# Altium footprint library JFD_IC.PcbLib: 15 footprints
Each footprint in its own frame and in the unit in brackets; x right, y up, seen from the top. Pads: shape width x height; smd on the part's side, far side on the other; paste and mask are expansions set on the pad; w line width, h text height; cw(c..) or ccw(c..) is an arc to the next point about the centre after c.
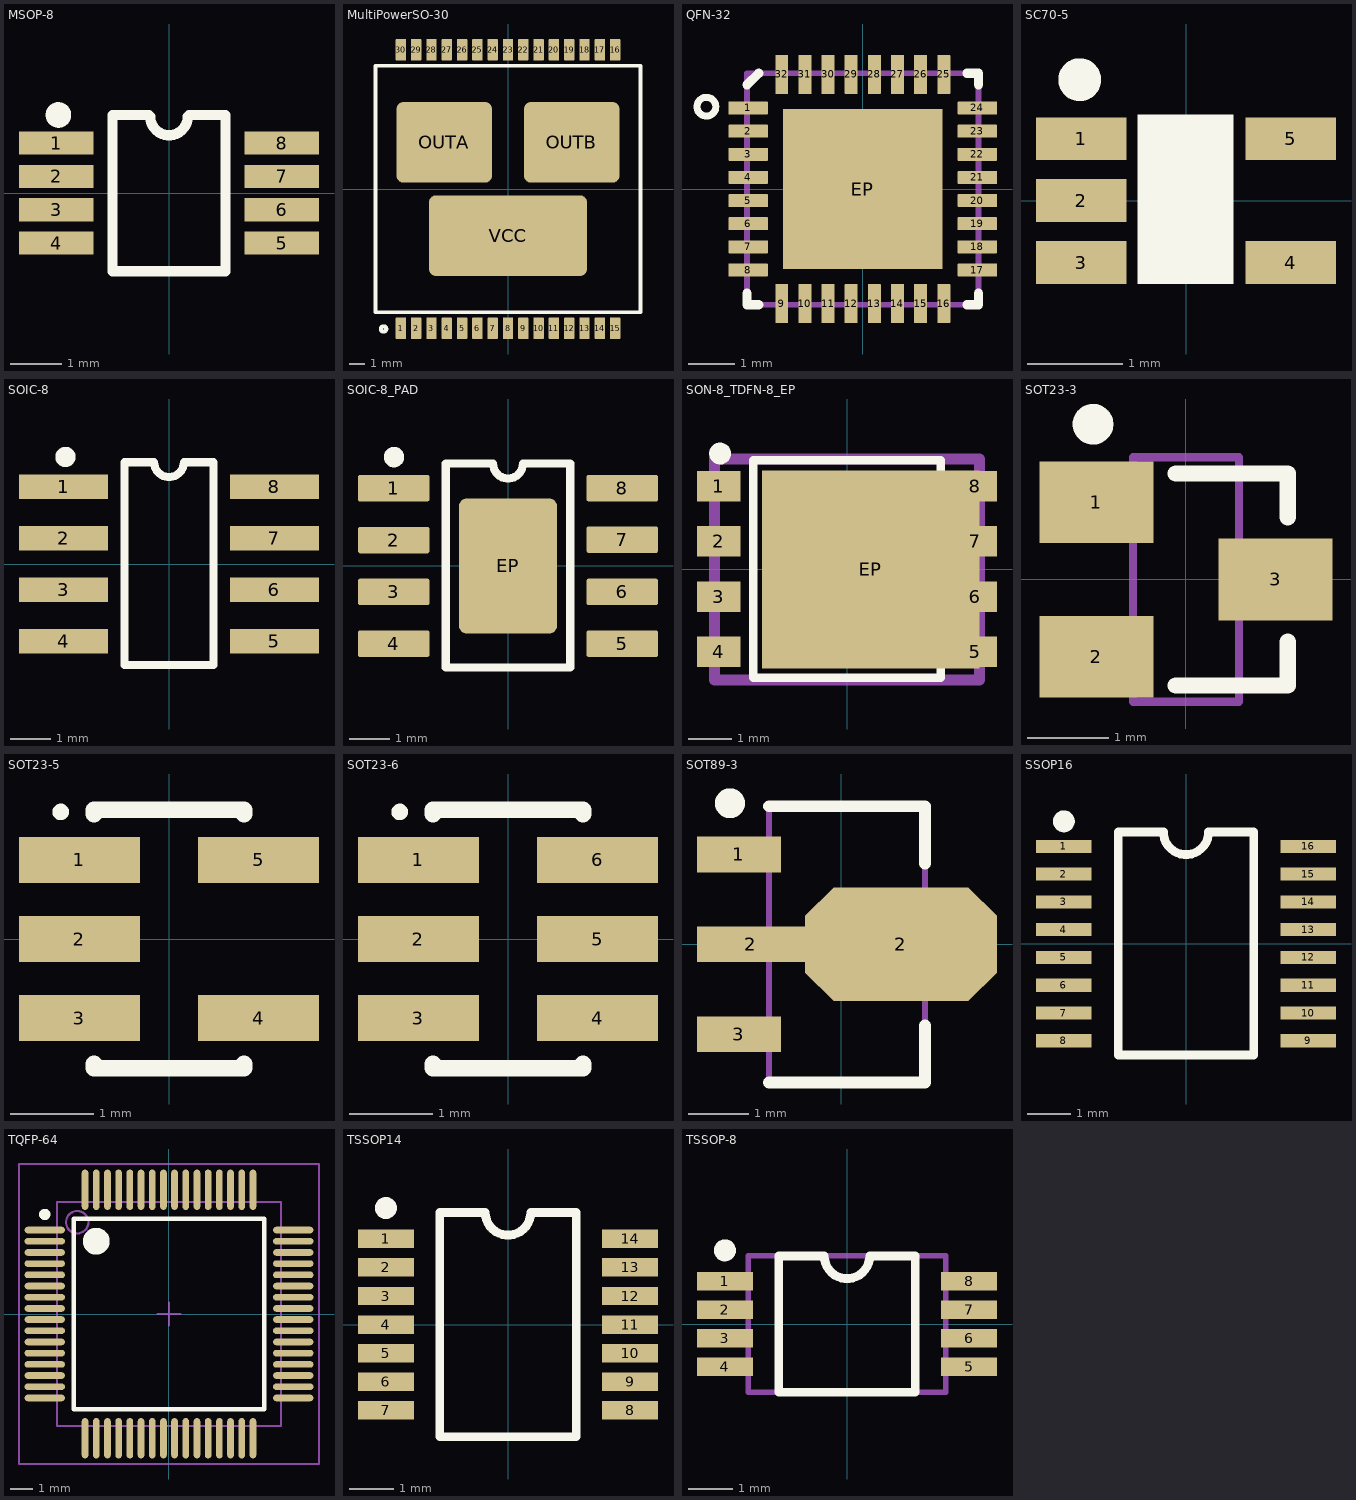
[diagram p0: the footprints below, top view; thin cyan lines are the x and y axes]

## MSOP-8 [mm]
height 1.1
pads (8):
  rect 1.45x0.45 smd mask+0.05: 1(-2.2,0.975) 2(-2.2,0.325) 3(-2.2,-0.325) 4(-2.2,-0.975) 5(2.2,-0.975) 6(2.2,-0.325) 7(2.2,0.325) 8(2.2,0.975)
Top Overlay:
  circle w0.25: c-2.157,1.524 r0.125
  lines w0.2: -0.397,1.524 -1.1,1.524 -1.1,-1.524 1.1,-1.524 1.1,1.524 0.397,1.524 ; -0.367,1.494 ccw(c0,1.494) 0.367,1.494
3D body: height 1.1, standoff 0, extent -2.469,-1.55 2.469,1.55

## MultiPowerSO-30 [mm]
height 2.25
pads (33):
  rrect15% 0.68x1.4 smd: 1(-7,-9.1) 2(-6,-9.1) 3(-5,-9.1) 4(-4,-9.1) 5(-3,-9.1) 6(-2,-9.1) 7(-1,-9.1) 8(0,-9.1) 9(1,-9.1) 10(2,-9.1) 11(3,-9.1) 12(4,-9.1) 13(5,-9.1) 14(6,-9.1) 15(7,-9.1) 16(7,9.1) 17(6,9.1) 18(5,9.1) 19(4,9.1) 20(3,9.1) 21(2,9.1) 22(1,9.1) 23(0,9.1) 24(-1,9.1) 25(-2,9.1) 26(-3,9.1) 27(-4,9.1) 28(-5,9.1) 29(-6,9.1) 30(-7,9.1)
  rrect15% 6.23x5.25 smd: OUTA(-4.165,3.05) OUTB(4.165,3.05)
  rrect15% 10.3x5.25 smd: VCC(0,-3.05)
Top Overlay:
  circle w0.254: c-8.128,-9.144 r0.18
  lines w0.254: -8.65,-8.05 8.65,-8.05 8.65,8.05 -8.65,8.05 -8.65,-8.05
Mechanical 13:
  lines w0.152: -8.65,-8.05 8.65,-8.05 8.65,8.05 -8.65,8.05 -8.65,-8.05
3D body: height 2.25, standoff -0.1, extent -8.636,-9.574 8.664,9.574

## QFN-32 [mm]
height 1
pads (33):
  rrect10% 0.85x0.28 smd: 1(-2.475,1.75) 2(-2.475,1.25) 3(-2.475,0.75) 4(-2.475,0.25) 5(-2.475,-0.25) 6(-2.475,-0.75) 7(-2.475,-1.25) 8(-2.475,-1.75) 17(2.475,-1.75) 18(2.475,-1.25) 19(2.475,-0.75) 20(2.475,-0.25) 21(2.475,0.25) 22(2.475,0.75) 23(2.475,1.25) 24(2.475,1.75)
  rrect10% 0.28x0.85 smd paste+0: 9(-1.75,-2.475)
  rrect10% 0.28x0.85 smd: 10(-1.25,-2.475) 11(-0.75,-2.475) 12(-0.25,-2.475) 13(0.25,-2.475) 14(0.75,-2.475) 15(1.25,-2.475) 16(1.75,-2.475) 25(1.75,2.475) 26(1.25,2.475) 27(0.75,2.475) 28(0.25,2.475) 29(-0.25,2.475) 30(-0.75,2.475) 31(-1.25,2.475) 32(-1.75,2.475)
  rect 3.45x3.45 smd: EP(0,0)
Top Overlay:
  circle w0.152: c-3.378,1.778 r0.203
  lines w0.2: -2.5,-2.25 -2.5,-2.5 -2.25,-2.5 ; -2.5,2.25 -2.25,2.5 ; 2.25,-2.5 2.5,-2.5 2.5,-2.25 ; 2.25,2.5 2.5,2.5 2.5,2.25
Mechanical 13:
  lines w0.125: -2.5,-2.5 -2.5,2.5 2.5,2.5 2.5,-2.5 -2.5,-2.5
3D body: height 0.8, standoff -0.05, extent -2.5,-2.5 2.5,2.5

## SC70-5 [mm]
height 1
pads (5):
  rect 0.95x0.45 smd: 1(-1.1,0.65) 2(-1.1,0) 3(-1.1,-0.65) 4(1.1,-0.65) 5(1.1,0.65)
Top Overlay:
  circle w0.25: c-1.116,1.27 r0.1
  region: -0.508,0.904 -0.508,-0.874 0.498,-0.874 0.498,0.904
3D body: height 1, standoff 0, extent -1.15,-1.05 1.15,1.05

## SOIC-8 [mm]
height 1.75
pads (8):
  rect 2.2x0.6 smd: 1(-2.6,1.905) 2(-2.6,0.635) 3(-2.6,-0.635) 4(-2.6,-1.905) 5(2.6,-1.905) 6(2.6,-0.635) 7(2.6,0.635) 8(2.6,1.905)
Top Overlay:
  circle w0.25: c-2.555,2.64 r0.125
  lines w0.2: -1.1,-2.49 1.1,-2.49 1.1,2.51 0.367,2.51 cw(c0,2.51) -0.367,2.51 -1.1,2.51 -1.1,-2.49
3D body: height 1.7, standoff 0, extent -3,-2.45 3,2.45

## SOIC-8_PAD [mm]
height 1.75
pads (9):
  rrect15% 1.75x0.65 smd: 1(-2.8,1.905) 2(-2.8,0.635) 3(-2.8,-0.635) 4(-2.8,-1.905) 5(2.8,-1.905) 6(2.8,-0.635) 7(2.8,0.645) 8(2.8,1.905)
  rrect15% 2.41x3.3 smd: EP(0,0)
Top Overlay:
  circle w0.25: c-2.792,2.667 r0.125
  lines w0.2: -1.524,-2.49 -1.524,2.51 -0.367,2.51 ccw(c0,2.51) 0.367,2.51 1.524,2.51 1.524,-2.49 -1.524,-2.49
3D body: height 1.7, standoff 0, extent -3,-2.45 3,2.45

## SON-8_TDFN-8_EP [mm]
height 1
pads (9):
  rect 1x0.7 smd: 1(-2.95,1.915) 2(-2.95,0.645) 3(-2.95,-0.625) 4(-2.95,-1.895) 5(2.95,-1.895) 6(2.95,-0.625) 7(2.95,0.645) 8(2.95,1.915)
  rect 5x4.56 smd: EP(0.55,0)
Top Overlay:
  circle w0.25: c-2.919,2.667 r0.125
  lines w0.2: -2.159,-2.49 -2.159,2.51 2.159,2.51 2.159,-2.49 -2.159,-2.49
Mechanical 13:
  lines w0.254: -3.05,-2.54 3.05,-2.54 3.05,2.54 -3.05,2.54 -3.05,-2.54
3D body: height 1, standoff 0, extent -3.048,-2.49 3.048,2.514

## SOT23-3 [mm]
height 1.1
pads (3):
  rect 1.4x1 smd: 1(-1.1,0.95) 2(-1.1,-0.95) 3(1.1,0)
Top Overlay:
  circle w0.25: c-1.141,1.905 r0.125
  lines w0.2: -0.127,-1.3 1.25,-1.3 1.25,-0.762 ; -0.127,1.3 1.25,1.3 1.25,0.762
Mechanical 13:
  lines w0.1: -0.65,-1.5 0.65,-1.5 0.65,1.5 -0.65,1.5 -0.65,-1.5
3D body: height 1.1, standoff 0, extent -1.15,-1.5 1.15,1.5

## SOT23-5 [mm]
height 1.45
pads (5):
  rect 1.45x0.55 smd: 1(-1.075,0.95) 2(-1.075,0) 3(-1.075,-0.95) 4(1.075,-0.95) 5(1.075,0.95)
Top Overlay:
  circle w0.1: c-1.3,1.525 r0.05
  lines w0.2: -0.9,-1.5 -0.9,-1.55 0.9,-1.55 0.9,-1.5 ; -0.9,1.5 -0.9,1.55 0.9,1.55 0.9,1.5
3D body: height 1.3, standoff 0, extent -1.5,-1.5 1.5,1.5

## SOT23-6 [mm]
height 1.45
pads (6):
  rect 1.45x0.55 smd: 1(-1.075,0.95) 2(-1.075,0) 3(-1.075,-0.95) 4(1.075,-0.95) 5(1.075,0) 6(1.075,0.95)
Top Overlay:
  circle w0.1: c-1.3,1.525 r0.05
  lines w0.2: -0.9,-1.5 -0.9,-1.55 0.9,-1.55 0.9,-1.5 ; -0.9,1.5 -0.9,1.55 0.9,1.55 0.9,1.5
3D body: height 1.3, standoff 0, extent -1.5,-1.5 1.5,1.5

## SOT89-3 [mm]
pads (4):
  rect 1.4x0.6 smd: 1(-1.706,1.5) 3(-1.706,-1.5)
  rect 1.8x0.6 smd: 2(-1.506,0)
  oct 3.2x1.9 smd: 2(0.994,0)
Top Overlay:
  circle w0.25: c-1.856,2.35 r0.125
  lines w0.2: -1.206,-2.3 1.394,-2.3 1.394,-1.35 ; -1.206,2.3 1.394,2.3 1.394,1.35
Mechanical 13:
  lines w0.1: -1.206,-2.3 -1.206,2.3 1.394,2.3 1.394,-2.3 -1.206,-2.3
Mechanical 15:
  lines w0.1: -0.406,0 0.594,0 ; 0.094,-0.5 0.094,0.5
3D body: height 1.6, standoff 0, extent -2.246,-2.3 2.004,2.3

## SSOP16 [mil]
height 69
pads (16):
  rect 50x11.81 smd: 1(-110,87.5) 2(-110,62.5) 3(-110,37.5) 4(-110,12.5) 5(-110,-12.5) 6(-110,-37.5) 7(-110,-62.5) 8(-110,-87.5) 9(110,-87.5) 10(110,-62.5) 11(110,-37.5) 12(110,-12.5) 13(110,12.5) 14(110,37.5) 15(110,62.5) 16(110,87.5)
Top Overlay:
  circle w9.84: c-109.92,110 r4.92
  lines w7.87: -61.02,-100.39 -61.02,100.39 -20.34,100.39 ccw(c0,100.39) 20.34,100.39 61.02,100.39 61.02,-100.39 -61.02,-100.39
3D body: height 78.74, standoff 0, extent -125.98,-98.42 125.99,98.43

## TQFP-64 [mm] "TQFP 64 pins, 10x10mm, 0.5mm pitch"
height 1.2
pads (64):
  oval 1.8x0.3 smd: 1(-5.55,3.75) 2(-5.55,3.25) 3(-5.55,2.75) 4(-5.55,2.25) 5(-5.55,1.75) 6(-5.55,1.25) 7(-5.55,0.75) 8(-5.55,0.25) 9(-5.55,-0.25) 10(-5.55,-0.75) 11(-5.55,-1.25) 12(-5.55,-1.75) 13(-5.55,-2.25) 14(-5.55,-2.75) 15(-5.55,-3.25) 16(-5.55,-3.75) 33(5.55,-3.75) 34(5.55,-3.25) 35(5.55,-2.75) 36(5.55,-2.25) 37(5.55,-1.75) 38(5.55,-1.25) 39(5.55,-0.75) 40(5.55,-0.25) 41(5.55,0.25) 42(5.55,0.75) 43(5.55,1.25) 44(5.55,1.75) 45(5.55,2.25) 46(5.55,2.75) 47(5.55,3.25) 48(5.55,3.75)
  oval 0.3x1.8 smd: 17(-3.75,-5.55) 18(-3.25,-5.55) 19(-2.75,-5.55) 20(-2.25,-5.55) 21(-1.75,-5.55) 22(-1.25,-5.55) 23(-0.75,-5.55) 24(-0.25,-5.55) 25(0.25,-5.55) 26(0.75,-5.55) 27(1.25,-5.55) 28(1.75,-5.55) 29(2.25,-5.55) 30(2.75,-5.55) 31(3.25,-5.55) 32(3.75,-5.55) 49(3.75,5.55) 50(3.25,5.55) 51(2.75,5.55) 52(2.25,5.55) 53(1.75,5.55) 54(1.25,5.55) 55(0.75,5.55) 56(0.25,5.55) 57(-0.25,5.55) 58(-0.75,5.55) 59(-1.25,5.55) 60(-1.75,5.55) 61(-2.25,5.55) 62(-2.75,5.55) 63(-3.25,5.55) 64(-3.75,5.55)
Top Overlay:
  circle w0.6: c-3.25,3.25 r0.3
  circle w0.25: c-5.55,4.45 r0.125
  lines w0.2: -4.25,-4.25 4.25,-4.25 4.25,4.25 -4.25,4.25 -4.25,-4.25
Mechanical 13:
  circle w0.1: c-4.1,4.1 r0.5
  lines w0.1: -5,-5 5,-5 5,5 -5,5 -5,-5
Mechanical 15:
  lines w0.1: -0.5,0 0.5,0 ; 0,-0.5 0,0.5 ; -6.7,-6.7 6.7,-6.7 6.7,6.7 -6.7,6.7 -6.7,-6.7
3D body: height 1.2, standoff 0.01, extent -5.994,-5.994 5.994,5.994

## TSSOP14 [mm]
height 1.1
pads (14):
  rect 1.27x0.419 smd: 1(-2.775,1.95) 2(-2.775,1.3) 3(-2.775,0.65) 4(-2.775,0) 5(-2.775,-0.65) 6(-2.775,-1.3) 7(-2.775,-1.95) 8(2.775,-1.95) 9(2.775,-1.3) 10(2.775,-0.65) 11(2.775,0) 12(2.775,0.65) 13(2.775,1.3) 14(2.775,1.95)
Top Overlay:
  circle w0.25: c-2.775,2.65 r0.125
  lines w0.2: -1.55,-2.55 -1.55,2.55 -0.517,2.55 ccw(c0,2.55) 0.517,2.55 1.55,2.55 1.55,-2.55 -1.55,-2.55
3D body: height 1.1, standoff 0, extent -3.2,-2.5 3.2,2.5

## TSSOP-8 [mm]
height 1.2
pads (8):
  rect 1.27x0.419 smd: 1(-2.775,0.975) 2(-2.775,0.325) 3(-2.775,-0.325) 4(-2.775,-0.975) 5(2.775,-0.975) 6(2.775,-0.325) 7(2.775,0.325) 8(2.775,0.975)
Top Overlay:
  circle w0.25: c-2.775,1.675 r0.125
  lines w0.2: -1.55,-1.55 -1.55,1.55 -0.517,1.55 ccw(c0,1.55) 0.517,1.55 1.55,1.55 1.55,-1.55 -1.55,-1.55
Mechanical 13:
  lines w0.125: -2.25,-1.55 2.25,-1.55 2.25,1.55 -2.25,1.55 -2.25,-1.55
3D body: height 1.1, standoff 0, extent -2.05,-1.55 2.05,1.55